# EAGLE library part LM555CM (library Fairchild_By_element14_Batch_1)
Single Timer
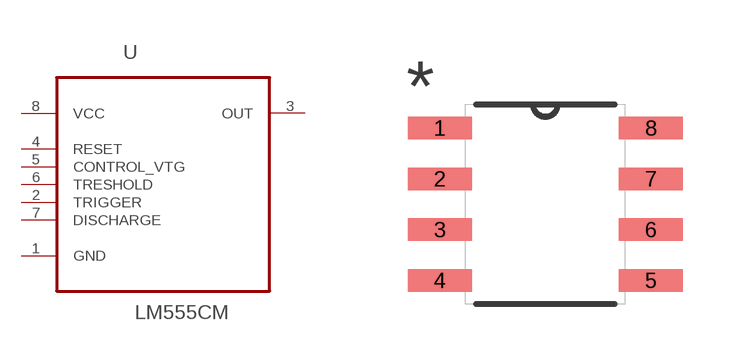
[diagram p219: symbol with the pads of SOIC127P600X175-8N; footprint SOIC127P600X175-8N]

Designator prefix U

## LM555CM (MPN: LM555CM; OC_FARNELL: -; OC_NEWARK: 78K6011; PACKAGE: SOIC-8; SUPPLIER: FAIRCHILD)  [SOIC127P600X175-8N]
1  GND  pas
2  TRIGGER  in
3  OUT  out
4  RESET  in
5  CONTROL_VTG  in
6  TRESHOLD  in
7  DISCHARGE  in
8  VCC  pwr

## Footprint SOIC127P600X175-8N (pad centres in mm)
smd 1.6 x 0.559: 1 -2.642,1.905; 2 -2.642,0.635; 3 -2.642,-0.635; 4 -2.642,-1.905; 5 2.642,-1.905; 6 2.642,-0.635; 7 2.642,0.635; 8 2.642,1.905